# EAGLE library part LCD_CFAX (library SparkFun-Displays)
Graphic LCD module (LCD-00463) DISCONTINUED
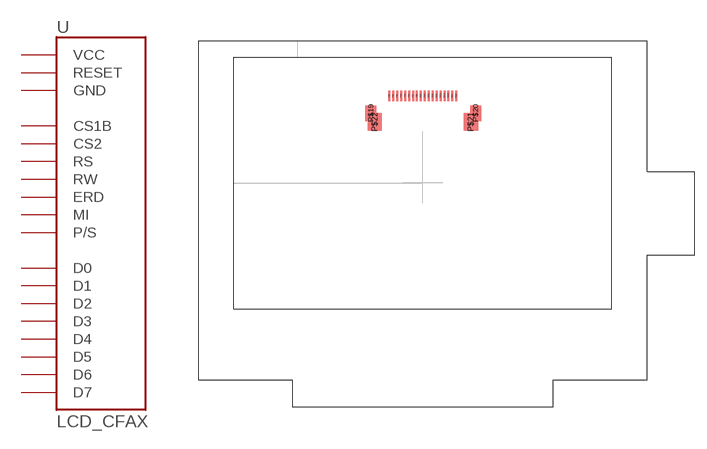
[diagram p3: symbol with the pads of LCD_CFAX; footprint LCD_CFAX]

Designator prefix -

## LCD_CFAX  [LCD_CFAX]
P$1  VCC
P$2  GND
P$3  CS1B
P$4  CS2
P$5  RESET
P$6  RS
P$7  RW
P$8  ERD
P$9  D0
P$10  D1
P$11  D2
P$12  D3
P$13  D4
P$14  D5
P$15  D6
P$16  D7
P$17  MI
P$18  P/S

## Footprint LCD_CFAX (pad centres in mm)
smd 0.25 x 1.3: P$1 -4.25,11.05; P$2 -3.75,11.05; P$3 -3.25,11.05; P$4 -2.75,11.05; P$5 -2.25,11.05; P$6 -1.75,11.05; P$7 -1.25,11.05; P$8 -0.75,11.05; P$9 -0.25,11.05; P$10 0.25,11.05; P$11 0.75,11.05; P$12 1.25,11.05; P$13 1.75,11.05; P$14 2.25,11.05; P$15 2.75,11.05; P$16 3.25,11.05; P$17 3.75,11.05; P$18 4.25,11.05
smd 1.4 x 2: P$19 -6.6,8.85; P$20 6.7,8.85
smd 1.8 x 2.2: P$21 6.1,7.75; P$22 -6.1,7.75